# Altium schematic symbol library Miscelaneous_ICs.SchLib: 11 symbols
Pins are listed as number, name and electrical type; pins without a type are passive.

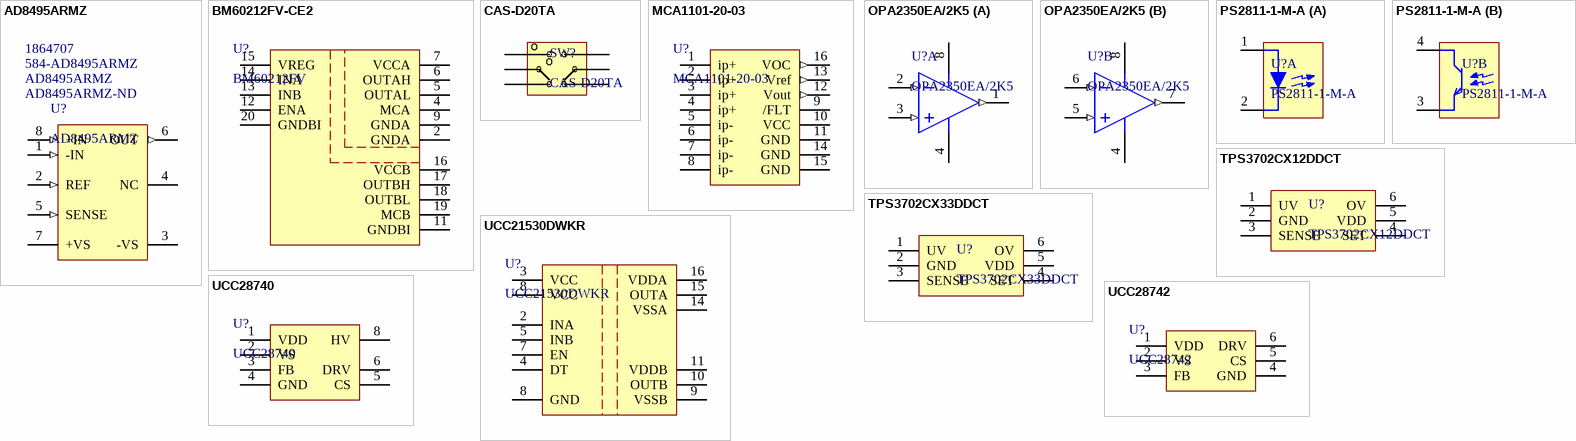
[diagram p0: symbols AD8495ARMZ to UCC28742]

## AD8495ARMZ
designator U?  Supplier Part Number 1: AD8495ARMZ-ND  Supplier Part Number 3: 584-AD8495ARMZ  Supplier Part Number 4: 1864707
SWITCH SLIDE SPDTX2 100MA 6V; Manufacturer: Analog Devices; Manufacturer Part Number: CAS-D20TA; Packing: Tube; Body Material: Polyphenylene; Throw Configuration: SPDT,DPDT; Max Voltage Rating (DC): 24V; Actuator Type: Slide (Standard); Number of Positions: 2; Electrical Life: 2000Cycles; Pitch: 0.068inch; Washable: Yes; ComponentLink3URL: http://www.analog.com/static/imported-files/packages/PKG_PDF/MSOP%28RM%29/RM_8.pdf; ComponentLink4URL: http://www.analog.com/en/mems-sensors/digital-temperature-sensors/ad8495/products/product.html; ComponentLink1URL: http://www.analog.com/en/index.html; PartNumber: AD8495ARMZ; PackageVersion: 08/2005; PackageReference: RM-8; PackageDescription: 8-Pin Mini Small Outline Package, Body 3 x 3 mm, Pitch 0.65 mm; ComponentLink1Description: Manufacturer URL; Code_JEDEC: MO-187-AA; ComponentLink2URL: http://www.analog.com/static/imported-files/data_sheets/AD8494_8495_8496_8497.pdf; Mounting Technology: Surface Mount; ComponentLink4Description: Product URL; ComponentLink3Description: Package Specification; ComponentLink2Description: Datasheet; DatasheetVersion: Rev. C; Supplier 1: Digi-Key; Supplier 2: Arrow; Supplier 3: Mouser; Supplier 4: Farnell; Supplier 5: Digi-Key; RoHS: Yes; Category: DIP Switches; Stock 5: 16534; Pricing 5: 1=1.77000, 10=1.71800, 25=1.56240, 100=1.35740, 250=1.23020, 500=1.14534 (USD); Mount: Surface Mount; Contact Material: Copper Alloy; Contact Plating: Gold; Min Operating Temperature: -40°C; Max Operating Temperature: 85°C; Termination: J-Hook; Current Rating: 100mA; Packaging: Tape and Reel; Voltage Rating (DC): 6V; Orientation: Vertical; Length: 0.212inch; Lead Free: Contains Lead; ComponentLink5URL: https://datasheet.ciiva.com/2865/cas-2865268.pdf?src-supplier=Digi-Key; ComponentLink5Description: https://datasheet.ciiva.com/2865/cas-2865268.pdf?src-supplier=Digi-Key; ComponentLink6URL: https://datasheet.ciiva.com/2865/cas-2865269.pdf?src-supplier=Digi-Key; ComponentLink6Description: https://datasheet.ciiva.com/2865/cas-2865269.pdf?src-supplier=Digi-Key; ComponentLink7URL: https://datasheet.ciiva.com/2865/cas-2865270.pdf?src-supplier=Digi-Key; ComponentLink7Description: https://datasheet.ciiva.com/2865/cas-2865270.pdf?src-supplier=Digi-Key; Supplier Part Number 2: AD8495ARMZ
footprint DGK0008A_L (TSOP, 8-Leads, Body 3.1x3.1mm, Pitch 0.65mm, IPC High Density)
footprint DGK0008A_M (TSOP, 8-Leads, Body 3.1x3.1mm, Pitch 0.65mm, IPC Low Density)
footprint DGK0008A_N (TSOP, 8-Leads, Body 3.1x3.1mm, Pitch 0.65mm, IPC Medium Density)
pins: 1 -IN (in) "Negative Input.", 2 REF (in) "Reference. This pin must be driven by low impedance.", 3 -VS (power) "Negative Supply.", 4 NC "No Connect.", 5 SENSE (in) "Sense Pin. In measurement mode, connect to output; in setpoint mode, connect to setpoint voltage.", 6 OUT (out) "Output.", 7 +VS (power) "Positive Supply.", 8 +IN (in) "Positive Input."

## BM60212FV-CE2
designator U?, comment BM60212FV
MOSFET and Power Driver 2-OUT Hi/Lo Side Non-Inv 20-Pin SSOP-BW Emboss T/R; Manufacturer: Rohm; Manufacturer Part Number: BM60212FV-CE2; Stock 1: 1999; Pricing 1: 1=4,24000, 10=3,80800, 25=3,60000, 100=2,96000, 250=2,65600, 500=2,56000, 1000=2,24000 (USD); Supplier 1: DigiKey; Supplier 2: Digi-Key; Supplier 3: Digi-Key; Supplier 4: Mouser; Supplier 5: Farnell; Supplier 6: Newark; Supplier Part Number 6: 01AH6823; Supplier Part Number 5: 3011496; Supplier Part Number 4: 755-BM60212FV-CE2; Supplier Part Number 3: BM60212FV-CE2DKR-ND; Supplier Part Number 2: BM60212FV-CE2CT-ND; Supplier Part Number 1: BM60212FV-CE2CT-ND
footprint SOP65P810X190-20N (SOP, 20-Leads, Body 6,50x6,10mm, Pitch 0,65mm, IPC Medium Density)
pins: 2 GNDA, 4 MCA, 5 OUTAL, 6 OUTAH, 7 VCCA, 9 GNDA, 11 GNDBI, 12 ENA, 13 INB, 14 INA, 15 VREG, 16 VCCB, 17 OUTBH, 18 OUTBL, 19 MCB, 20 GNDBI

## CAS-D20TA
designator SW?
SWITCH SLIDE SPDTX2 100MA 6V; Manufacturer: Nidec Copal; Body Material: Polyphenylene; Throw Configuration: SPDT,DPDT; Max Voltage Rating (DC): 24V; Actuator Type: Slide (Standard); Number of Positions: 2; Electrical Life: 2000Cycles; Pitch: 0.068inch; Washable: Yes; Supplier 1: Digi-Key; Manufacturer Part Number: CAS-D20TA; RoHS: Yes; Category: DIP Switches; Stock 1: 16534; Pricing 1: 1=1.77000, 10=1.71800, 25=1.56240, 100=1.35740, 250=1.23020, 500=1.14534 (USD); Mount: Surface Mount; Contact Material: Copper Alloy; Contact Plating: Gold; Min Operating Temperature: -40°C; Max Operating Temperature: 85°C; Termination: J-Hook; Current Rating: 100mA; Packaging: Tape and Reel; Voltage Rating (DC): 6V; Orientation: Vertical; Length: 0.212inch; Lead Free: Contains Lead; ComponentLink1URL: https://datasheet.ciiva.com/2865/cas-2865268.pdf?src-supplier=Digi-Key; ComponentLink1Description: https://datasheet.ciiva.com/2865/cas-2865268.pdf?src-supplier=Digi-Key; ComponentLink2URL: https://datasheet.ciiva.com/2865/cas-2865269.pdf?src-supplier=Digi-Key; ComponentLink2Description: https://datasheet.ciiva.com/2865/cas-2865269.pdf?src-supplier=Digi-Key; ComponentLink3URL: https://datasheet.ciiva.com/2865/cas-2865270.pdf?src-supplier=Digi-Key; ComponentLink3Description: https://datasheet.ciiva.com/2865/cas-2865270.pdf?src-supplier=Digi-Key; Supplier Part Number 1: CASD20JCT-ND
footprint CAS-D20TA (Interruptores corredizos Dual SPDT, ON-ON, slide, J-hook SMD terminals, 100mA @ 6V DC, T&R packaging, washable with seal tape)
pins: 1, 2, 3, 4, 5, 6

## MCA1101-20-03
designator U?
High Accuracy Current Sensor IC with 1.5MHz 3dB Bandwidth and Isolation ±20A,, 3.3V, Ratiometric; Manufacturer: ACEINNA; Mouser Part Number: 438-MCA1101-20-3; Mouser Price/Stock: https://www.mouser.com/Search/Refine.aspx?Keyword=438-MCA1101-20-3; Datasheet Link: https://www.mouser.cl/datasheet/2/940/6020-1104-01_B_Datasheet_2c_Current_Sensor_Fix_Gai-1622847.pdf; Current rating: 20A; Supply voltage: 3.3V; Package/Case: SOIC 16
footprint SOIC127P1030X265-16N (SOIC, 16-Leads, Body 10,30x7,50mm, Pitch 1,27mm, IPC Medium Density)
pins: 1 ip+, 2 ip+, 3 ip+, 4 ip+, 5 ip-, 6 ip-, 7 ip-, 8 ip-, 9 /FLT (oc), 10 VCC (power), 11 GND (power), 12 Vout (out), 13 Vref (out), 14 GND (power), 15 GND (power), 16 VOC (out)

## OPA2350EA/2K5
designator U?
High-Speed, Single-Supply, Rail-to-Rail Operational Amplifier MicroAmplifier(TM) Series, 2.7 to 5.5 V, -40 to 85 degC, 8-pin SOP (DGK8), Green (RoHS & no Sb/Br); Manufacturer: Texas Instruments; Vn at 1kHz(Typ)(nV/rtHz): 18; Iq per channel(Max)(mA): 8.5; Sub Family: Low Input Bias Current Amp (<=10pA), Low Offset Voltage Amplifier (<=500uV), Low Supply Voltage Amplifier (<=2.7V), Precision Amplifier; CMRR(Min)(dB): 74; Total Supply Voltage(Min)(+5V is 5, +/-5V is 10): 2.7; Offset Drift(Typ)(uV/C): 4; Total Supply Voltage(Max)(+5V is 5, +/-5V is 10): 5.5; Number of Channels: 2; Slew Rate(Typ)(V/us): 22; IIB(Max)(pA): 10; Vio (25C)(Max)(mV): 1; ComponentLink1Description: Manufacturer URL; ComponentLink2URL: http://www.ti.com/general/docs/lit/getliterature.tsp?genericPartNumber=OPA2350&fileType=pdf; PackageDescription: 8-Pin Thin Small Outline, Body 3 x 3 mm, Pitch 0.65 mm; ComponentLink2Description: Datasheet; PackageReference: DGK0008A; PartNumber: OPA2350EA/2K5; Mounting Technology: Surface Mount; ComponentLink3Description: Package Specification; DatasheetVersion: SBOS099C; Code_JEDEC: MO-187; Eco-Plan: Green (RoHS & no Sb/Br); ComponentLink3URL: http://www.ti.com/litv/pdf/mpds028d; ComponentLink1URL: http://www.ti.com/; PackageVersion: 4073329/E, 05/2006; Supplier 1: Digi-Key; Supplier 2: Digi-Key; Supplier 3: Digi-Key; Supplier 4: Mouser; Supplier 5: Farnell; Supplier 6: Newark; Supplier Part Number 6: 28AH4511; Supplier Part Number 5: 3004918; Supplier Part Number 4: 595-OPA2350EA/2K5; Supplier Part Number 3: 296-39117-2-ND; Supplier Part Number 2: 296-39117-6-ND; Supplier Part Number 1: 296-39117-1-ND
footprint DGK0008A_M (TSOP, 8-Leads, Body 3.1x3.1mm, Pitch 0.65mm, IPC Low Density)
footprint DGK0008A_L (TSOP, 8-Leads, Body 3.1x3.1mm, Pitch 0.65mm, IPC High Density)
footprint DGK0008A_N (TSOP, 8-Leads, Body 3.1x3.1mm, Pitch 0.65mm, IPC Medium Density)
pins on every part: 4 V- (power), 8 V+ (power)
part A pins: 1 OUT A (out), 2 IN A- (in), 3 IN A+ (in)
part B pins: 5 IN B+ (in), 6 IN B- (in), 7 OUT B (out)

## PS2811-1-M-A
designator U?
Transistor Output Optocouplers Hi CTR Opto 1-Ch; Number of Channels: 1; If - Forward Current: 5 mA; Isolation Voltage: 2500 Vrms; Maximum Collector Emitter Saturation Voltage: 0.3 V; Vf - Forward Voltage: 1.15 V; Vr - Reverse Voltage: 6 V; Package / Case: SSOP-4; Supplier 1: Mouser; Supplier Part Number 1: 968-PS2811-1-F3-A
footprint SOP127P700X210-4L (SOP, 4-Leads, Body 2,85x4,45mm, Pitch 1,27mm, IPC High Density)
part A pins: 1, 2
part B pins: 3, 4

## TPS3702CX12DDCT
designator U?
IC VOLT MONITOR OV/UV 1.2V SOT6; Manufacturer: Texas Instruments; Number of Voltages Monitored: 1; Reset: Active Low; Min Supply Voltage: 2V; Max Supply Voltage: 18V; Quiescent Current: 6uA; Supplier 1: Digi-Key; Manufacturer Part Number: TPS3702CX12DDCT; RoHS: Yes; Category: Voltage Supervisors; Stock 1: 3660; Pricing 1: 1=2.36000, 10=2.12000, 25=2.00000, 100=1.60000 (USD); Mount: Surface Mount; Case/Package: SOT-23-6; Number of Pins: 6; Min Operating Temperature: -40°C; Max Operating Temperature: 125°C; Packaging: Cut Tape; Threshold Voltage: 1.2V; Type: Voltage Detector; REACH SVHC: No SVHC; Lead Free: Lead Free; ComponentLink1URL: http://www.ti.com/general/docs/lit/getliterature.tsp?genericPartNumber=TPS3702&&fileType=pdf&src-supplier=Farnell; ComponentLink1Description: http://www.ti.com/general/docs/lit/getliterature.tsp?genericPartNumber=TPS3702&&fileType=pdf&src-supplier=Farnell; ComponentLink2URL: http://www.ti.com/lit/ds/symlink/tps3702.pdf?src-supplier=Digi-Key; ComponentLink2Description: http://www.ti.com/lit/ds/symlink/tps3702.pdf?src-supplier=Digi-Key; ComponentLink3URL: http://www.ti.com/general/docs/lit/getliterature.tsp?genericPartNumber=TPS3702&&fileType=pdf&src-supplier=Avnet; ComponentLink3Description: http://www.ti.com/general/docs/lit/getliterature.tsp?genericPartNumber=TPS3702&&fileType=pdf&src-supplier=Avnet; ComponentLink4URL: http://www.ti.com/general/docs/lit/getliterature.tsp?genericPartNumber=TPS3702&&fileType=pdf&src-supplier=Element14; ComponentLink4Description: http://www.ti.com/general/docs/lit/getliterature.tsp?genericPartNumber=TPS3702&&fileType=pdf&src-supplier=Element14; Supplier Part Number 1: 296-42074-1-ND
footprint TPS3702CX12DDCT (Supervisor Open Drain or Open Collector 1 Channel TSOT-23-6)
pins: 1 UV (power), 2 GND (power), 3 SENSE (power), 4 SET (power), 5 VDD (power), 6 OV (power)

## TPS3702CX33DDCT
designator U?
TEXAS INSTRUMENTS - TPS3702CX33DDCT - VOLTAGE SUPERVISOR, 3.3V, SOT-23-6; Number of Voltages Monitored: 1; Reset: Active Low; Min Supply Voltage: 2V; Max Supply Voltage: 18V; Accuracy: 0.25%; Operating Supply Current: 7uA; Overvoltage Threshold: 3.6V; Undervoltage Threshold: 3.17V; Quiescent Current: 6uA; Supplier 1: Digi-Key; Manufacturer: Texas Instruments; Manufacturer Part Number: TPS3702CX33DDCT; RoHS: Yes; Category: Voltage Supervisors; Stock 1: 4091; Pricing 1: 1=2.36000, 10=2.12000, 25=2.00000, 100=1.60000 (USD); Mount: Surface Mount; Case/Package: SOT-6; Number of Pins: 6; Weight: 0.001058oz; Min Operating Temperature: -40°C; Max Operating Temperature: 125°C; Packaging: Tape and Reel; Threshold Voltage: 3.3V; Number of Monitored Inputs: 1; Package Quantity: 250; Type: Voltage Detector; REACH SVHC: No SVHC; Lead Free: Lead Free; ComponentLink1URL: http://www.ti.com/lit/ds/symlink/tps3702.pdf?src-supplier=Digi-Key; ComponentLink1Description: http://www.ti.com/lit/ds/symlink/tps3702.pdf?src-supplier=Digi-Key; ComponentLink2URL: http://www.ti.com/general/docs/lit/getliterature.tsp?genericPartNumber=TPS3702&&fileType=pdf&src-supplier=Element14; ComponentLink2Description: http://www.ti.com/general/docs/lit/getliterature.tsp?genericPartNumber=TPS3702&&fileType=pdf&src-supplier=Element14; ComponentLink3URL: http://www.ti.com/lit/gpn/tps3702?src-supplier=Mouser; ComponentLink3Description: http://www.ti.com/lit/gpn/tps3702?src-supplier=Mouser; ComponentLink4URL: http://www.ti.com/general/docs/lit/getliterature.tsp?genericPartNumber=TPS3702&&fileType=pdf&src-supplier=Farnell; ComponentLink4Description: http://www.ti.com/general/docs/lit/getliterature.tsp?genericPartNumber=TPS3702&&fileType=pdf&src-supplier=Farnell; ComponentLink5URL: http://www.ti.com/general/docs/lit/getliterature.tsp?genericPartNumber=TPS3702&amp;&amp;fileType=pdf&src-supplier=Farnell; ComponentLink5Description: http://www.ti.com/general/docs/lit/getliterature.tsp?genericPartNumber=TPS3702&amp;&amp;fileType=pdf&src-supplier=Farnell; ComponentLink6URL: http://www.ti.com/general/docs/lit/getliterature.tsp?genericPartNumber=TPS3702&&fileType=pdf&src-supplier=Avnet; ComponentLink6Description: http://www.ti.com/general/docs/lit/getliterature.tsp?genericPartNumber=TPS3702&&fileType=pdf&src-supplier=Avnet; Supplier Part Number 1: 296-39651-1-ND
footprint TPS3702CX33DDCT (Supervisor Open Drain or Open Collector 1 Channel TSOT-23-6)
pins: 1 UV (power), 2 GND (power), 3 SENSE (power), 4 SET (power), 5 VDD (power), 6 OV (power)

## UCC21530DWKR
designator U?
Isolated Dual-Channel Gate Driver 6A 2-Output High Side/Low Side/Half-Bridge 14-Pin SOIC T/R; Manufacturer: Texas Instruments; Manufacturer Part Number: UCC21530DWKR; RoHS: No; Stock 1: 914; Pricing 1: 1=5,70000, 10=5,11700, 25=4,83760, 100=3,97750, 250=3,56900, 500=3,44000, 1000=2,85950 (USD); Supplier 1: Digi-Key; Supplier 2: Digi-Key; Supplier 3: Mouser; Supplier Part Number 1: 296-UCC21530DWKRCT-ND; Supplier Part Number 2: 296-UCC21530DWKRDKR-ND; Supplier Part Number 3: 595-UCC21530DWKR
footprint SOIC127P1030X265-16N-DWK SOIC (14) (DWK SOIC (14) 16-Leads, Body 10,30x7,50mm, Pitch 1,27mm, IPC Medium Density)
pins: 2 INA (power), 3 VCC (power), 4 DT (power), 5 INB (power), 7 EN (power), 8 VCC (power), 8 GND (power), 9 VSSB (power), 10 OUTB (power), 11 VDDB (power), 14 VSSA (power), 15 OUTA (power), 16 VDDA (power)

## UCC28740
designator U?
Switching Controllers Automotive ultra low standby, flyback controller with integrated HV startup and optocoupler feedback 7-SOIC -40 to 125
footprint SOIC-7 (SOIC, 7-Leads, Body 4.9x3.9mm, Pitch 1.27mm)
pins: 1 VDD (power), 2 VS (power), 3 FB (power), 4 GND (power), 5 CS (power), 6 DRV (power), 8 HV (power)

## UCC28742
designator U?
High-Efficiency Flyback Controller with Optocoupler Feedback - Texas Instruments; Supplier 1: Digi-Key; Supplier 2: Digi-Key; Supplier 3: Digi-Key; Supplier 4: Mouser; Supplier 5: Arrow; Supplier 6: Digi-Key; Supplier 7: Digi-Key; Supplier 8: Mouser; Supplier 9: Arrow; Supplier Part Number 9: UCC28742DBVR; Supplier Part Number 8: 595-UCC28742DBVR; Supplier Part Number 7: 296-52200-6-ND; Supplier Part Number 6: 296-52200-1-ND; Supplier Part Number 5: UCC28742DBVT; Supplier Part Number 4: 595-UCC28742DBVT; Supplier Part Number 3: 296-49499-2-ND; Supplier Part Number 2: 296-49499-6-ND; Supplier Part Number 1: 296-49499-1-ND
footprint SOT95P280X145-6L (SOT23, 6-Leads, Body 2,90x2,80mm, Pitch 0,95mm, IPC High Density)
pins: 1 VDD (power), 2 VS (power), 3 FB (power), 4 GND (power), 5 CS (power), 6 DRV (power)